# Altium schematic symbol library protect_tvs_esd_fuse.SchLib: 75 symbols
Pins are listed as number, name and electrical type; pins without a type are passive.

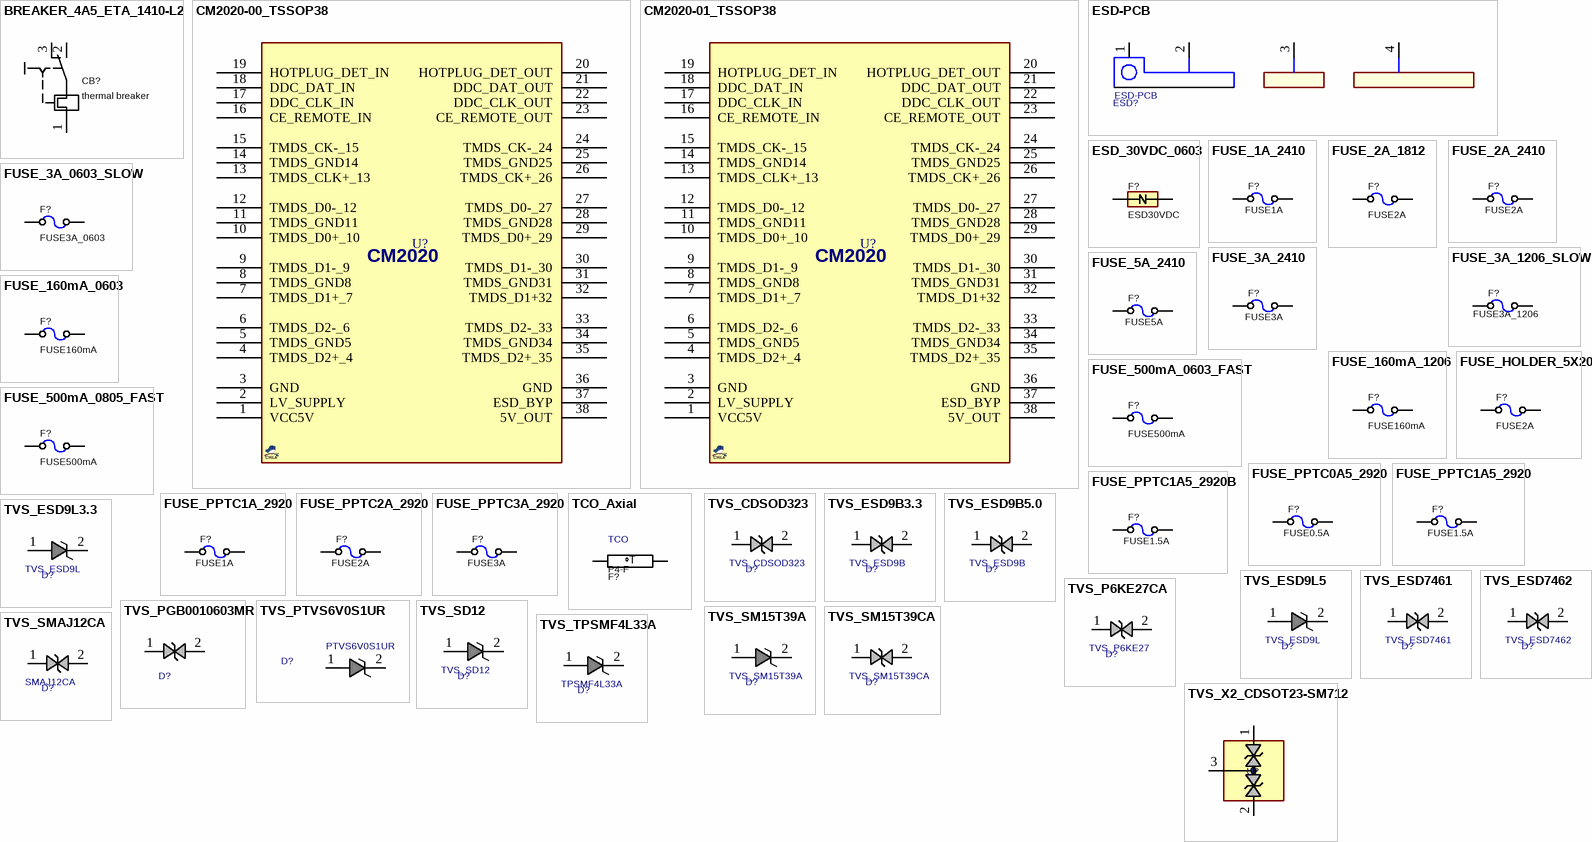
[diagram p0: symbols BREAKER_4A5_ETA_1410-L2 to TVS_X2_CDSOT23-SM712]

## BREAKER_4A5_ETA_1410-L2
designator CB?, comment thermal breaker
Circuit breaker 4.5A PCB mount; MANF: E-T-A; MANF_P#: 1410-L210-L2F1-S02-4.5A; PARAM: 4.5A; 28VDC; 240VAC; VALUE: thermal breaker
footprint BREAKER_1410-L2 (E-T-A Thermal Overcurrent Circuit Breaker 1410-L2)
pins: 1, 2, 3

## CM2020-00_TSSOP38
designator U?, comment CM2020  (value not drawn)
TVS, ESD PROTECT, HDMI, 8kV; MANF: ON; MANF_P#: CM2020-00TR; PARAM2: 8kV ESD Protection; PARAM: -40~85°C; PRICE: 1.4$; VALUE: CM2020
footprint SOG50_38 (38L TSSOP (MAXIM),38Lead, pitch: 0.5mm, 10x4.4x1.2mm)
pins: 1 VCC5V, 2 LV_SUPPLY, 3 GND, 4 TMDS_D2+_4, 5 TMDS_GND5, 6 TMDS_D2-_6, 7 TMDS_D1+_7, 8 TMDS_GND8, 9 TMDS_D1-_9, 10 TMDS_D0+_10, 11 TMDS_GND11, 12 TMDS_D0-_12, 13 TMDS_CLK+_13, 14 TMDS_GND14, 15 TMDS_CK-_15, 16 CE_REMOTE_IN, 17 DDC_CLK_IN, 18 DDC_DAT_IN, 19 HOTPLUG_DET_IN, 20 HOTPLUG_DET_OUT, 21 DDC_DAT_OUT, 22 DDC_CLK_OUT, 23 CE_REMOTE_OUT, 24 TMDS_CK-_24, 25 TMDS_GND25, 26 TMDS_CK+_26, 27 TMDS_D0-_27, 28 TMDS_GND28, 29 TMDS_D0+_29, 30 TMDS_D1-_30, 31 TMDS_GND31, 32 TMDS_D1+32, 33 TMDS_D2-_33, 34 TMDS_GND34, 35 TMDS_D2+_35, 36 GND, 37 ESD_BYP, 38 5V_OUT

## CM2020-01_TSSOP38
designator U?, comment CM2020  (value not drawn)
TVS, ESD PROTECT, HDMI, ±8kV; MANF: ON; MANF_P#: CM2020-01TR; PARAM2: ±8kV ESD Protection; PARAM: -40~85°C; PRICE: 1.4$; VALUE: CM2020
footprint SOG50_38 (38L TSSOP (MAXIM),38Lead, pitch: 0.5mm, 10x4.4x1.2mm)
pins: 1 VCC5V, 2 LV_SUPPLY, 3 GND, 4 TMDS_D2+_4, 5 TMDS_GND5, 6 TMDS_D2-_6, 7 TMDS_D1+_7, 8 TMDS_GND8, 9 TMDS_D1-_9, 10 TMDS_D0+_10, 11 TMDS_GND11, 12 TMDS_D0-_12, 13 TMDS_CLK+_13, 14 TMDS_GND14, 15 TMDS_CK-_15, 16 CE_REMOTE_IN, 17 DDC_CLK_IN, 18 DDC_DAT_IN, 19 HOTPLUG_DET_IN, 20 HOTPLUG_DET_OUT, 21 DDC_DAT_OUT, 22 DDC_CLK_OUT, 23 CE_REMOTE_OUT, 24 TMDS_CK-_24, 25 TMDS_GND25, 26 TMDS_CK+_26, 27 TMDS_D0-_27, 28 TMDS_GND28, 29 TMDS_D0+_29, 30 TMDS_D1-_30, 31 TMDS_GND31, 32 TMDS_D1+32, 33 TMDS_D2-_33, 34 TMDS_GND34, 35 TMDS_D2+_35, 36 GND, 37 ESD_BYP, 38 5V_OUT

## ESD-PCB
designator ESD?
ESD, PCB; ASSEMBLY: DNP; VALUE: ESD-PCB
footprint ESD3X125
pins: 1, 2, 3, 4

## ESD_30VDC_0603
designator F?, comment ESD30VDC
ESD Suppressor 30VDC 0603 SMD; MANF: Cooper Bussmann; MANF_P#: 603ESDA2-TR2; PARAM2: WORK30V; PARAM: CLAMP60V; VALUE: ESD30VDC
footprint ESD0603 (Chip ESD suppressor, Body 1.6x0.8mm, 0603)
pins: 1, 2

## FUSE_1A_2410
designator F?, comment FUSE1A
Fuse, 1A, 125VDC, 2410, SMD, Fast Acting; PARAM: 1A; 125VDC; fast acting; MANF: Reomax; MANF_P#: SFE1100; PARAM2: 0.25 Ohm DC Cold Resistance; PRICE: 260toman@Javan; VALUE: FUSE1A
footprint F2410 (FUSE, 6x2.5mm)
pins: 1, 2

## FUSE_2A_1812
designator F?, comment FUSE2A
Fuse, 2A, -VDC, 1812, SMD, Fast Acting; MANF_P#: MANF_PART#; PARAM: 2A; MANF: MANF; PARAM2: PARAM2; VALUE: FUSE2A
footprint F1812 (FUSE, 4.50x3.20mm)
pins: 1, 2

## FUSE_2A_2410
designator F?, comment FUSE2A
Fuse, 2A, 125VDC, 2410, SMD, Fast Acting; PARAM: 2A; 125VDC; fast acting; MANF: Reomax; MANF_P#: SFE1200; PARAM2: 0.25 Ohm DC Cold Resistance; PRICE: 260toman@Javan; VALUE: FUSE2A
footprint F2410 (FUSE, 6x2.5mm)
pins: 1, 2

## FUSE_3A_0603_SLOW
designator F?, comment FUSE3A_0603
Fuse, 3A, 32VDC, 0603, SMD, Slow Blow; PARAM: 3A; 32VDC; Slow Blow; MANF: Bourns; MANF_P#: SF-0603SP300-2; PARAM2: 0.018Ohm; PRICE: 0.8$; VALUE: FUSE3A_0603
footprint F0603 (Footprint not found)
pins: 1, 2

## FUSE_3A_1206_SLOW
designator F?, comment FUSE3A_1206
Fuse, 3A, 32VDC, 1206, SMD, Slow Blow; PARAM: 3A; 32VDC; Slow Blow; MANF: Bourns; MANF_P#: SF-1206SP300-2; PARAM2: 0.027Ohm; PRICE: 0.9$; VALUE: FUSE3A_1206
footprint F1206 (FUSE, 1206, 3.2x1.6mm)
pins: 1, 2

## FUSE_3A_2410
designator F?, comment FUSE3A
Fuse, 3A, 125VDC, 2410, SMD, Fast Acting; PARAM: 3A; 125VDC; fast acting; MANF: Reomax; MANF_P#: SFE1300; PARAM2: 0.25 Ohm DC Cold Resistance; PRICE: 260toman@Javan; VALUE: FUSE3A
footprint F2410 (FUSE, 6x2.5mm)
pins: 1, 2

## FUSE_5A_2410
designator F?, comment FUSE5A
Fuse, 5A, 125VDC, 2410, SMD, Fast Acting; PARAM: 5A; 125VDC; fast acting; MANF: Reomax; MANF_P#: SFE1500; PARAM2: 0.25 Ohm DC Cold Resistance; PRICE: 260toman@Javan; VALUE: FUSE5A
footprint F2410 (FUSE, 6x2.5mm)
pins: 1, 2

## FUSE_160mA_0603
designator F?, comment FUSE160mA
Fuse, 160mA, 63VDC, 0603, SMD, Fast Acting; PARAM: 160mA; 63VDC; slow-blow; MANF: Holly Fuse; MANF_P#: 06T-0160L; PARAM2: PARAM2; VALUE: FUSE160mA
footprint F0603 (Footprint not found)
pins: 1, 2

## FUSE_160mA_1206
designator F?, comment FUSE160mA
Fuse, 160mA, 63VDC, 1206, SMD, Fast Acting; PARAM: 160mA; 63VDC; slow-blow; MANF: Holly Fuse; MANF_P#: 12T-0160L; PARAM2: PARAM2; VALUE: FUSE160mA
footprint F1206 (FUSE, 1206, 3.2x1.6mm)
pins: 1, 2

## FUSE_500mA_0603_FAST
designator F?, comment FUSE500mA
Fuse, 500mA, 32VDC, 0603, SMD, Fast Acting; PARAM: 500mA; 32VDC; fast acting; MANF: AVX Corporation; MANF_P#: F0603E0R50FSTR; PARAM2: 0.25 Ohm DC Cold Resistance; VALUE: FUSE500mA
footprint F0603 (Footprint not found)
pins: 1, 2

## FUSE_500mA_0805_FAST
designator F?, comment FUSE500mA
Fuse, 500mA, 32VDC, 0805, SMD, Fast Acting; PARAM: 500mA; 32VDC; fast acting; MANF_P#: MANF_PART#; PARAM2: 0.25 Ohm DC Cold Resistance; MANF: MANF; VALUE: FUSE500mA
footprint F0805 (,0805, 2012, 200X130 FUSE)
pins: 1, 2

## FUSE_HOLDER_5X20
designator F?, comment FUSE2A
Fuse HOLDER 5X20; PARAM: 2A; MANF_P#: MANF_PART#; MANF: MANF; PARAM2: PARAM2; VALUE: FUSE2A
footprint FUSH_5X20MM (PCB Fuse Holder 5x20mm 2 PIN, pitch: 15.0mm  24x9mm)
footprint FUSH_5X20MM_4PIN (PCB Fuse Holder 5x20mm 4 PIN)
pins: 1, 2

## FUSE_PPTC0A5_2920
designator F?, comment FUSE0.5A
Fuse, PPTC, 0.5A, 60v, 1.4Ohm, 2920; PARAM: 0.5A, 1A Itrip, 100A max, -40~85oC; MANF: Bel Fuse; MANF_P#: 0ZCF0200AF2C; PARAM2: 60VDC, 1.4Ohm; DESC: Resettable Fuse; PRICE: 0.23$; VALUE: FUSE0.5A
footprint F2920 (FUSE, 7.7x5.3mm)
pins: 1, 2

## FUSE_PPTC1A5_2920
designator F?, comment FUSE1.5A
Fuse, PPTC, 1.5A, 33v, 230mOhm, 2920; PARAM: 1.5A, 3A Itrip, 100A max, -40~85oC; MANF: Bel Fuse; MANF_P#: 0ZCF0200AF2C; PARAM2: 33VDC, 230mOhm; DESC: Resettable Fuse; PRICE: 0.23$; VALUE: FUSE1.5A
footprint F2920 (FUSE, 7.7x5.3mm)
pins: 1, 2

## FUSE_PPTC1A5_2920B
designator F?, comment FUSE1.5A
Fuse, PPTC, 1.5A, 33v, 230mOhm, 2920; PARAM: 1.5A, 3A Itrip, 40A max, -40~85oC; MANF: Bourns; MANF_P#: MF-SM150/33-2; PARAM2: 33VDC, 230mOhm; DESC: Resettable Fuse; PRICE: 0.5$; VALUE: FUSE1.5A
footprint F2920 (FUSE, 7.7x5.3mm)
pins: 1, 2

## FUSE_PPTC1A_2920
designator F?, comment FUSE1A
Fuse, PPTC, 1A, 60v, 410mOhm, 2920; PARAM: 1A, 2A Itrip, 100A max, -40~85oC; MANF: Bel Fuse; MANF_P#: 0ZCF0100AF2A; PARAM2: 60VDC, 410mOhm; DESC: Resettable Fuse; PRICE: 0.4$; VALUE: FUSE1A
footprint F2920 (FUSE, 7.7x5.3mm)
pins: 1, 2

## FUSE_PPTC2A_2920
designator F?, comment FUSE2A
Fuse, PPTC, 2A, 24v, 120mOhm, 2920; PARAM: 2A, 4A Itrip, 100A max, -40~85oC; MANF: Bel Fuse; MANF_P#: 0ZCF0200AF2C; PARAM2: 24VDC, 120mOhm; DESC: Resettable Fuse; PRICE: 0.23$; VALUE: FUSE2A
footprint F2920 (FUSE, 7.7x5.3mm)
pins: 1, 2

## FUSE_PPTC3A_2920
designator F?, comment FUSE3A
Fuse, PPTC, 3A, 24v, 48mOhm, 2920; PARAM: 3A, 5.2A Itrip, 100A max, -40~85oC; MANF: Bel Fuse; MANF_P#: 0ZCF0300BF2C; PARAM2: 24VDC, 48mOhm; DESC: Resettable Fuse; PRICE: 0.47$; VALUE: FUSE3A
footprint F2920 (FUSE, 7.7x5.3mm)
pins: 1, 2

## TCO_Axial
designator F?, comment MANF_P#: P4-F  (hidden comment: TCO)
Thermal cutoff axial 2 Amp 130 deg C; MANF: Aupo; PARAM: 130°C; 2.0A; 250Vac; VALUE: TCO
footprint AUPO_P-4F_BEND1 (Aupo P-4F TCO for positioning on IC legs)
footprint AUPO_P-4F_BEND2 (Aupo P-4F TCO for positioning on IC legs)
footprint AUPO_P-4F_BEND3 (Aupo P-4F TCO for positioning on IC legs)
footprint AUPO_P-4F_BEND4 (Aupo P-4F TCO for positioning on IC legs)
footprint AUPO_P-4F_BEND5 (Aupo P-4F TCO for positioning on IC legs)
footprint AUPO_P-4F_BEND6 (Aupo P-4F TCO for positioning on IC legs)
footprint AUPO_P-4F_BEND6M (Aupo P-4F TCO for positioning on IC legs)
footprint AUPO_P-4F_BEND7 (Aupo P-4F TCO for positioning on IC legs)
footprint AUPO_P-4F_BEND8 (Aupo P-4F TCO for positioning on IC legs)
footprint AUPO_P-4F_BEND8T (Aupo P-4F TCO for positioning on top of FETs)
footprint AUPO_P-4F_BEND8S (Aupo P-4F TCO for positioning beside FETs)
footprint AUPO_P-4F_BEND6SP (Aupo P-4F TCO for positioning on IC legs)
pins: 1, 2
text: T

## TVS_CDSOD323
designator D?
TVS, ESD PROTECT, Bidirectional; MANF_P#: CDSOD323-T12C; MANF: Bourns; PARAM2: 13.3VB, 12VR; PRICE: 0.7$; VALUE: TVS_CDSOD323
footprint D0805 (DIODE0805, SOD323 (PHILIPS), SC-76 (JEITA), DL-35)
pins: 1, 2

## TVS_ESD9B3.3
designator D?, comment TVS_ESD9B
TVS, ESD PROTECT, Bidirectional; MANF_P#: ESD9B3.3ST5G; MANF: ON; PARAM: 3.3VRWM; VALUE: TVS_ESD9B
footprint D_SOD923 (SOD-923 2-Leads, Body 0.60x.8mm)
pins: 1, 2

## TVS_ESD9B5.0
designator D?, comment TVS_ESD9B
TVS, ESD PROTECT, Bidirectional; MANF_P#: ESD9B5.0ST5G; MANF: ON; PARAM: 5VRWM; VALUE: TVS_ESD9B
footprint D_SOD923 (SOD-923 2-Leads, Body 0.60x.8mm)
pins: 1, 2

## TVS_ESD9L3.3
designator D?, comment TVS_ESD9L
TVS, ESD PROTECT,; MANF_P#: ESD9L3.3ST5G; MANF: ON; PARAM: 3.3VRWM; VALUE: TVS_ESD9L
footprint D_SOD923 (SOD-923 2-Leads, Body 0.60x.8mm)
pins: 1, 2

## TVS_ESD9L5
designator D?, comment TVS_ESD9L
TVS, ESD PROTECT,; MANF_P#: ESD9L5.0ST5G; MANF: ON; PARAM: 5VRWM; VALUE: TVS_ESD9L
footprint D_SOD923 (SOD-923 2-Leads, Body 0.60x.8mm)
pins: 1, 2

## TVS_ESD7461
designator D?
TVS, ESD PROTECT, Bidirectional; MANF_P#: ESD7461N2T5G; MANF: ON; PARAM: 16.5VB; PRICE: 0.5$; VALUE: TVS_ESD7461
footprint ESD_XDFN2 (CHIP ESD Suppressor XDFN-2 X2DFN-2, 1X0.6mm)
pins: 1, 2

## TVS_ESD7462
designator D?
TVS, ESD PROTECT, Bidirectional; MANF_P#: SZESD7462N2T5G; MANF: ON; PARAM: 16.5VB; PRICE: 0.5$; VALUE: TVS_ESD7462
footprint ESD_XDFN2 (CHIP ESD Suppressor XDFN-2 X2DFN-2, 1X0.6mm)
pins: 1, 2

## TVS_P6KE27CA
designator D?, comment TVS_P6KE27
TVS, ESD PROTECT, Bidirectional; MANF_P#: P6KE27CA; MANF: ST, LittleFuse; PARAM2: 25.7~28.4VBr, 23VRM, 48.3VCLAMP; VALUE: TVS_P6KE27
footprint D_AX05_DO15 (Footprint not found)
pins: 1, 2

## TVS_PGB0010603MR
designator D?, comment TVS603  (value not drawn)
TVS, ESD PROTECT, 24VDC, Bidirectional; MANF_P#: PGB0010603MR; MANF: LittelFuse; VALUE: TVS603
footprint D0603 (DIODE 0603, CDSU101A (Package SOD-523F))
pins: 1, 2

## TVS_PTVS6V0S1UR
designator D?, comment PTVS6V0S1UR
TVS, ESD PROTECT,; MANF: NXP; MANF_P#: PTVS6V0S1UR; VALUE: PTVS6V0S1UR
footprint D_SOD123W (1206D, SOD123, miniMELF, DO-213AA, MLL34, 320X160D)
signal-integrity model Guessed Model (IC Model Details Guessed by Setup Helper)
pins: 1, 2

## TVS_SD12
designator D?
TVS, ESD PROTECT, 12VRWM, 30KV; MANF_P#: SD12-01FTG, SD12C-01FTG; MANF: Littelfuse; PARAM2: 12VRWM, 30KV; PRICE: 0.5$; VALUE: TVS_SD12
footprint D_SOD323F (DIODE0805, SOD323 (PHILIPS), SC-76 (JEITA), DL-35)
pins: 1, 2

## TVS_SM15T39A
designator D?
TVS, ESD PROTECT; MANF: ST; PARAM2: 33.7VRWM, 37VBR; PARAM: -55~150°C; MANF_P#: SM15T39A; PRICE: 0.9$; VALUE: TVS_SM15T39A
footprint D_SMC (SMC, Molded Diode, 7.0x6.0mm)
pins: 1, 2

## TVS_SM15T39CA
designator D?
TVS, ESD PROTECT, Bidirectional; MANF: ST; PARAM2: 33.7VRWM, 37VBR; PARAM: -55~150°C; MANF_P#: SM15T39CA; PRICE: 0.9$; VALUE: TVS_SM15T39CA
footprint D_SMC (SMC, Molded Diode, 7.0x6.0mm)
pins: 1, 2

## TVS_SMAJ12CA
designator D?, comment SMAJ12CA
TVS, ESD PROTECT, Bidirectional; MANF: Littelfuse; PARAM2: 12VR, 13.3VBR; PARAM: -65~150°C; MANF_P#: SMAJ12CA; VALUE: SMAJ12CA
footprint D_SMA (SMA Molded Diode, 2-Leads, Body 4.3x2.7mm)
pins: 1, 2

## TVS_TPSMF4L33A
designator D?, comment TPSMF4L33A
TVS, ESD PROTECT; MANF: Littelfuse; PARAM2: 33.7VRWM, 37VBR; PARAM: -55~150°C; MANF_P#: TPSMF4L33A; PRICE: 0.5$; VALUE: TPSMF4L33A
footprint D_SOD123W (PowerDI-123, SOD123, DO-213AA, 1206D)
pins: 1, 2

## TVS_X2_CDSOT23-SM712
designator U?, comment CDSOT23-SM712  (value not drawn)
TVS, ESD PROTECT, 2CH, 400W/17A PP, 7.5VBR, ±8KV ESDmin; MANF: Bourns; PARAM: 400W/17A peak-pulse; MANF_P#: CDSOT23-SM712; PARAM2: 7.5VBR, ±8KV ESD min; PRICE: 1.6$; VALUE: CDSOT23-SM712
footprint SOT23_3 (SOT-23, Micro3, MO-178, TO-236AB, MO-193C, SuperSOT3, SC-59, DSO190_3_300X150)
pins: 1 NC, 2 GND, 3 NC

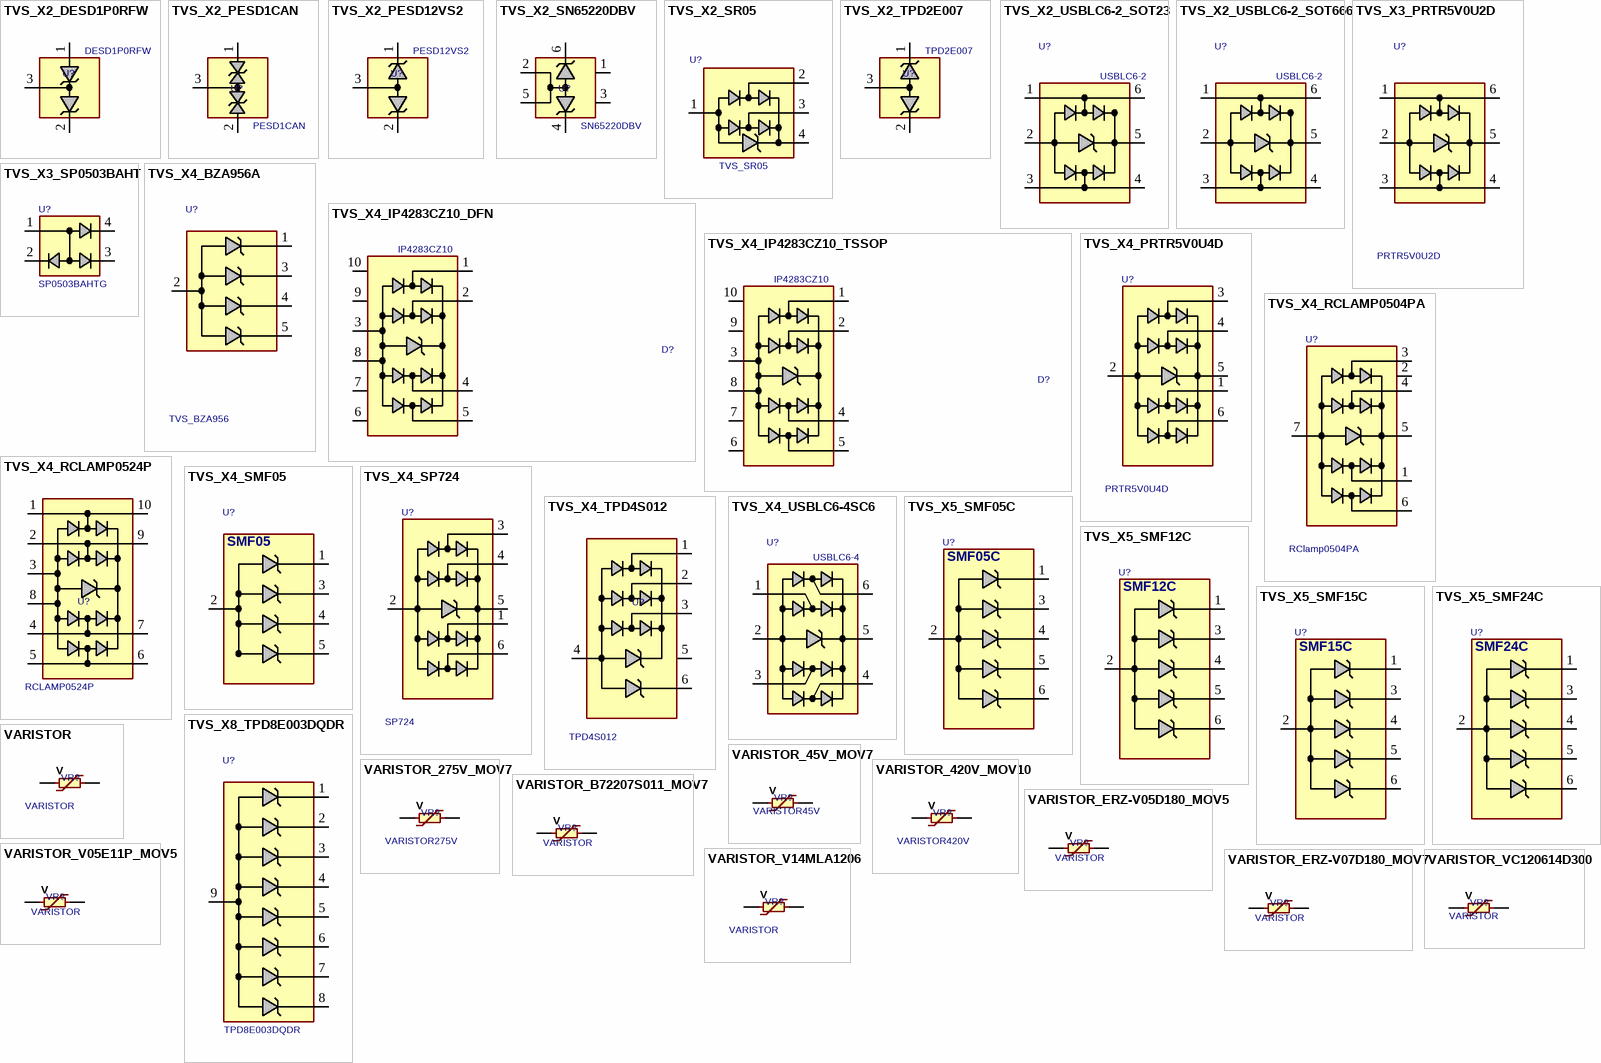
[diagram p1: symbols TVS_X2_DESD1P0RFW to VARISTOR_VC120614D300]

## TVS_X2_DESD1P0RFW
designator U?, comment DESD1P0RFW
TVS, ESD PROTECT, 2CH, 70VRWM, 0.2W; MANF_P#: DESD1P0RFWQ; MANF: DIODES; PARAM: 1.5pF, -65~150°C; PARAM2: 70VRWM, 0.2W; PRICE: 0.5$; VALUE: DESD1P0RFW
footprint SOT323_3 (SOT323, SC-70/SC70-3L, MO-203(JEDEC))
pins: 1 IO1, 2 IO2, 3 GND

## TVS_X2_PESD1CAN
designator U?, comment PESD1CAN
TVS, ESD PROTECT, 2CH, CAN bus ESD protection diode; MANF: NXP; MANF_P#: PESD1CAN; VALUE: PESD1CAN
footprint SOT23_3 (SOT-23, Micro3, MO-178, TO-236AB, MO-193C, SuperSOT3, SC-59, DSO190_3_300X150)
pins: 1 NC, 2 GND, 3 NC

## TVS_X2_PESD12VS2
designator U?, comment PESD12VS2
TVS, ESD PROTECT, 2CH, 15VBR, 0.2W; MANF_P#: PESD12VS2UQ,115; MANF: Nexperia; PARAM: 15VBR, -65~105oC; PRICE: 0.5$; VALUE: PESD12VS2
footprint SOT323_3 (SOT323, SC-70/SC70-3L, MO-203(JEDEC))
pins: 1 IO1, 2 IO2, 3 GND

## TVS_X2_SN65220DBV
designator U?, comment SN65220DBV
TVS, ESD PROTECT, 2CH; MANF: TI; MANF_P#: SN65220DBV; VALUE: SN65220DBV
footprint SOT23_6 (SOT-23-6, MICRO6, SOT-26, SOT457, SuperSOT6, TSOP-6, HMC313, MO-178AB, MO-193AA, TSOT)
pins: 1 NC, 2 GND, 3 NC, 4 B, 5 GND, 6 A

## TVS_X2_SR05
designator U?, comment TVS_SR05
TVS, ESD PROTECT, 2CH, 25A 5V 500W SOT-143; MANF_P#: SR05.TCT; MANF: SEMTECH CORP; VALUE: TVS_SR05
footprint SOT143_4 (SC-74A , SOT143, TO-253A, DSO190_4_300X150, LAT-3/MMM168, MW-4)
pins: 1, 2, 3, 4

## TVS_X2_TPD2E007
designator U?, comment TPD2E007
TVS, ESD PROTECT, 2CH, 14VBR, 0.2W; MANF_P#: TPD2E007DCKR; MANF: TI; PARAM: 14VBR, -40~85oC; PRICE: 0.6$; VALUE: TPD2E007
footprint SOT323_3 (SOT323, SC-70/SC70-3L, DCK, MO-203, 2X1.25mm)
pins: 1 IO1, 2 IO2, 3 GND

## TVS_X2_USBLC6-2_SOT23
designator U?, comment USBLC6-2
TVS, ESD PROTECT, 3CH; MANF_P#: USBLC6-2SC6; MANF: ST; VALUE: USBLC6-2
footprint SOT23_6 (SOT-23-6, MICRO6, SOT-26, SOT457, SuperSOT6, TSOP-6, HMC313, MO-178AB, MO-193AA, TSOT)
pins: 1, 2, 3, 4, 5, 6

## TVS_X2_USBLC6-2_SOT666
designator U?, comment USBLC6-2
TVS, ESD PROTECT, 3CH; MANF_P#: USBLC6-2P6; MANF: ST; VALUE: USBLC6-2
footprint SOT563_6 (SOT-563, 6 LEAD, Body 1.2x1.6mm, Pitch 0.50mm, DSO50_6_160X120)
pins: 1, 2, 3, 4, 5, 6

## TVS_X3_PRTR5V0U2D
designator U?, comment PRTR5V0U2D
TVS, ESD PROTECT, 3CH; MANF: NXP; MANF_P#: PRTR5V0U2D; VALUE: PRTR5V0U2D
footprint SOT23_6 (SOT-23-6, MICRO6, SOT-26, SOT457, SuperSOT6, TSOP-6, HMC313, MO-178AB, MO-193AA, TSOT)
pins: 1, 2, 3, 4, 5, 6

## TVS_X3_SP0503BAHT
designator U?, comment SP0503BAHTG
TVS, ESD PROTECT,  3CH; MANF: LITTELFUSE; DESC: DESCRIPTION; PARAM2: 200MW; PARAM: 12V; PRICE: 0.2918; MANF_P#: SP0503BAHTG; ASSEMBLY: ASSEMBLY; VALUE: SP0503BAHTG
footprint SOT143_4 (SC-74A , SOT143, TO-253A, DSO190_4_300X150, LAT-3/MMM168, MW-4)
pins: 1 P1, 2 P2, 3 P3, 4 P4

## TVS_X4_BZA956A
designator U?, comment TVS_BZA956
TVS, ESD PROTECT, 4CH, 5.6V SOT665; MANF_P#: BZA956A,115; MANF: NXP; VALUE: TVS_BZA956
footprint SOT553_5 (SOT-553, 5 LEAD, Body 1.2x1.6mm, Pitch 0.50mm, DSO50_5_160X120)
pins: 1, 2, 3, 4, 5

## TVS_X4_IP4283CZ10_DFN
designator D?, comment IP4283CZ10
TVS, ESD PROTECT, 4CH; MANF: NXP; MANF_P#: IP4283CZ10-TBA; VALUE: IP4283CZ10
footprint SON50_10_250X100 (uDFN-10, MO-229 (JEDEC)  - 2.5x1.0x0.5mm)
pins: 1, 2, 3, 4, 5, 6, 7, 8, 9, 10

## TVS_X4_IP4283CZ10_TSSOP
designator D?, comment IP4283CZ10
TVS, ESD PROTECT, 4CH; MANF: NXP; MANF_P#: IP4283CZ10-TT; VALUE: IP4283CZ10
footprint SOG50_10_S300
pins: 1, 2, 3, 4, 5, 6, 7, 8, 9, 10

## TVS_X4_PRTR5V0U4D
designator U?, comment PRTR5V0U4D
TVS, ESD PROTECT, 4CH; MANF: NXP; MANF_P#: PRTR5V0U4D; VALUE: PRTR5V0U4D
footprint SOT23_6 (SOT-23-6, MICRO6, SOT-26, SOT457, SuperSOT6, TSOP-6, HMC313, MO-178AB, MO-193AA, TSOT)
pins: 1, 2, 3, 4, 5, 6

## TVS_X4_RCLAMP0504PA
designator U?, comment RClamp0504PA
TVS, ESD PROTECT, 4CH; MANF: SEMTECH; MANF_P#: RClamp0504PA; VALUE: RClamp0504PA
footprint SON50_6T_S160 (SLP1616P6 DGN08   6-Lead DFN Pitch: 0.5mm 1.6x1.6x0.6mm with Thermal pad)
pins: 1, 2, 3, 4, 5, 6, 7 GND

## TVS_X4_RCLAMP0524P
designator U?, comment RCLAMP0524P
TVS, ESD PROTECT, 4CH; MANF: SEMTECH; MANF_P#: RCLAMP0524P; VALUE: RCLAMP0524P
footprint SON50_10_250X100 (uDFN-10, MO-229 (JEDEC)  - 2.5x1.0x0.5mm)
pins: 1, 2, 3, 4, 5, 6, 7 GND, 8 GND, 9 GND, 10 GND

## TVS_X4_SMF05
designator U?, comment TVS_SMF05  (value not drawn)
TVS, ESD PROTECT, 4CH, 5VRWM, 15KV; MANF_P#: SMF05; MANF: Semtech; PARAM: 5VRWM, 15KV; VALUE: TVS_SMF05
footprint SOT353_5 (SC-88A, SC70-5, SOT-353, DCK (TI), 0.65mm pitch 2X1.3mm body)
pins: 1, 2, 3, 4, 5

## TVS_X4_SP724
designator U?, comment SP724
TVS, ESD PROTECT, 4CH; MANF: Littelfuse; MANF_P#: SP724; VALUE: SP724
footprint SOT23_6 (SOT-23-6, MICRO6, SOT-26, SOT457, SuperSOT6, TSOP-6, HMC313, MO-178AB, MO-193AA, TSOT)
pins: 1, 2, 3, 4, 5, 6

## TVS_X4_TPD4S012
designator U?, comment TPD4S012
TVS, ESD PROTECT, 4CH, USB Interface; MANF_P#: TPD4S012DRY; MANF: TI; VALUE: TPD4S012
footprint SON50_6_140X100 (ULLGA6_1.45X1_0.5MM)
pins: 1 D_P, 2 D_N, 3 ID, 4 GND (power), 5 NC, 6 VBUS (power)

## TVS_X4_USBLC6-4SC6
designator U?, comment USBLC6-4
TVS, ESD PROTECT, 4CH; MANF_P#: USBLC6-4SC6; MANF: ST; VALUE: USBLC6-4
footprint SOT23_6 (SOT-23-6, MICRO6, SOT-26, SOT457, SuperSOT6, TSOP-6, HMC313, MO-178AB, MO-193AA, TSOT)
pins: 1, 2, 3, 4, 5, 6

## TVS_X5_SMF05C
designator U?, comment TVS_SMF05C  (value not drawn)
TVS, ESD PROTECT, 5CH, 5VRWM, 15KV; MANF_P#: SMF05C, SMF05CT1G; MANF: Semtech, ON; PARAM: 5VRWM, 15KV; VALUE: TVS_SMF05C
footprint SOT363_6 (SOT-363, SC-70_6, BFS483, SC-88, MO-203AB, DSO65_6_200X130)
pins: 1, 2, 3, 4, 5, 6
text: SMF05C

## TVS_X5_SMF12C
designator U?, comment TVS_SMF12C  (value not drawn)
TVS, ESD PROTECT, 5CH, 12VRWM, 15KV; MANF_P#: SMF12CT1G; MANF: ON; PARAM: 12VRWM, 15KV; VALUE: TVS_SMF12C
footprint SOT363_6 (SOT-363, SC-70_6, BFS483, SC-88, MO-203AB, DSO65_6_200X130)
pins: 1, 2, 3, 4, 5, 6
text: SMF12C

## TVS_X5_SMF15C
designator U?, comment TVS_SMF15C  (value not drawn)
TVS, ESD PROTECT, 5CH, 15VRWM, 15KV; MANF_P#: SMF15CT1G; MANF: ON; PARAM: 15VRWM, 15KV; VALUE: TVS_SMF15C
footprint SOT363_6 (SOT-363, SC-70_6, BFS483, SC-88, MO-203AB, DSO65_6_200X130)
pins: 1, 2, 3, 4, 5, 6
text: SMF15C

## TVS_X5_SMF24C
designator U?, comment TVS_SMF24C  (value not drawn)
TVS, ESD PROTECT, 5CH, 24VRWM, 15KV; MANF_P#: SMF24CT1G; MANF: ON; PARAM: 24VRWM, 15KV; VALUE: TVS_SMF24C
footprint SOT363_6 (SOT-363, SC-70_6, BFS483, SC-88, MO-203AB, DSO65_6_200X130)
pins: 1, 2, 3, 4, 5, 6
text: SMF24C

## TVS_X8_TPD8E003DQDR
designator U?, comment TPD8E003DQDR
TVS, ESD PROTECT, 8CH, 12KV; MANF: TI; MANF_P#: TPD8E003DQDR; VALUE: TPD8E003DQDR
footprint SON40_8T_170X140 (Footprint not found)
pins: 1, 2, 3, 4, 5, 6, 7, 8, 9

## VARISTOR
designator VR?
Varistor (Metal Oxiade Varistor); PARAM: V; MANF: MANF; PARAM2: PARAM2; MANF_P#: MANF_P#; VALUE: VARISTOR
footprint MOV_5D (R_VARISTOR, 5.0X6.4mm, pitch: 5.0mm,)
footprint MOV_7D (R_VARISTOR, 9.0X6.6mm, pitch: 5.0mm, 275VAC(RMS))
footprint MOV_10D (R_VARISTOR, 12.5X8.0mm, pitch: 7.5mm, 420V)
footprint MOV_20D (R_VARISTOR, 21.5X5.8mm, MOV-07DxxxK Metal Oxide Varistors (MOVs))
pins: 1, 2

## VARISTOR_45V_MOV7
designator VR?, comment VARISTOR45V
Varistor 45V, (Voltage-Sensitive Resistor), MOV7; MANF: Bourns; PARAM2: 35VAC/45VDC; MANF_P#: MOV-07D560K, ZOV-07D560K; PRICE: 100t; VALUE: VARISTOR45V
footprint MOV_7D (R_VARISTOR, 9.0X6.6mm, pitch: 5.0mm, 275VAC(RMS))
pins: 1, 2
text: V

## VARISTOR_275V_MOV7
designator VR?, comment VARISTOR275V
Varistor 275V, (Voltage-Sensitive Resistor), MOV7; MANF_P#: MANF_PART#; PARAM: 420V; MANF: MANF; PARAM2: PARAM2; VALUE: VARISTOR275V
footprint MOV_7D (R_VARISTOR, 9.0X6.6mm, pitch: 5.0mm, 275VAC(RMS))
pins: 1, 2
text: V

## VARISTOR_420V_MOV10
designator VR?, comment VARISTOR420V
Varistor 420V, (Voltage-Sensitive Resistor), MOV10; MANF: MANF; PARAM2: PARAM2; PARAM: 420V; MANF_P#: VARISTOR420V; VALUE: VARISTOR420V
footprint MOV_10D (R_VARISTOR, 12.5X8.0mm, pitch: 7.5mm, 420V)
pins: 1, 2
text: V

## VARISTOR_B72207S011_MOV7
designator VR?, comment VARISTOR
Varistor, 14VDC/11VAC, MOV7; MANF: EPCOS / TDK; PARAM2: 14VDC, 11VAC, 36VCLAMP; MANF_P#: B72207S0110K211; PARAM: 250A-ITM, -40~85oC; PRICE: 0.45$; VALUE: VARISTOR
footprint MOV_7D (VDR, VARISTOR, 9X5.6, pitch: 5.0mm, 275VAC(RMS))
pins: 1, 2
text: V

## VARISTOR_ERZ-V05D180_MOV5
designator VR?, comment VARISTOR
Varistor, 14VDC/11VAC, MOV5; MANF: Panasonic; PARAM2: 14VDC, 11VAC, 40VCLAMP; MANF_P#: ERZ-V05D180; PARAM: 250A-ITM, -40~85oC; PRICE: 0.35$; VALUE: VARISTOR
footprint MOV_5D (VDR, VARISTOR, 7X6.5, pitch: 5.0mm)
pins: 1, 2
text: V

## VARISTOR_ERZ-V07D180_MOV7
designator VR?, comment VARISTOR
Varistor, 14VDC/11VAC, MOV7; MANF: Panasonic; PARAM2: 14VDC, 11VAC, 36VCLAMP; MANF_P#: ERZ-V07D180; PARAM: 500A-ITM, -40~85oC; PRICE: 0.38$; VALUE: VARISTOR
footprint MOV_7D (VDR, VARISTOR, 9X5.6, pitch: 5.0mm, 275VAC(RMS))
pins: 1, 2
text: V

## VARISTOR_V05E11P_MOV5
designator VR?, comment VARISTOR
Varistor, 14VDC/11VAC, MOV5; MANF: Littelfuse; PARAM2: 14VDC, 11VAC, 36VCLAMP; MANF_P#: V05E11P; PARAM: 500A-ITM, -40~85oC; PRICE: 0.48$; VALUE: VARISTOR
footprint MOV_5D (VDR, VARISTOR, 7X6.5, pitch: 5.0mm)
pins: 1, 2
text: V

## VARISTOR_V14MLA1206
designator VR?, comment VARISTOR
Varistor, 14VDC/10VAC, 1206; MANF: Littelfuse; PARAM2: 14VDC, 10VAC, 32VCLAMP; MANF_P#: V14MLA1206NH; PARAM: 150A-ITM, 0.4W; PRICE: 1.1$; VALUE: VARISTOR
footprint R1206 (CHIP RESISTOR 1/4 WATT, Body 3.2x1.6mm,1206, 3216)
pins: 1, 2
text: V

## VARISTOR_VC120614D300
designator VR?, comment VARISTOR
Varistor, 14VDC/10VAC, 1206; MANF: AVX; PARAM2: 14VDC, 10VAC, 32VCLAMP; MANF_P#: VC120614D300RP; PARAM: 150A-ITM, 0.4W; PRICE: 0.38$; VALUE: VARISTOR
footprint R1206 (CHIP RESISTOR 1/4 WATT, Body 3.2x1.6mm,1206, 3216)
pins: 1, 2
text: V